# Altium footprint library Switches Tactile.PcbLib: 2 footprints
Each footprint in its own frame and in the unit in brackets; x right, y up, seen from the top. Pads: shape width x height; smd on the part's side, far side on the other; paste and mask are expansions set on the pad; w line width, h text height; cw(c..) or ccw(c..) is an arc to the next point about the centre after c.
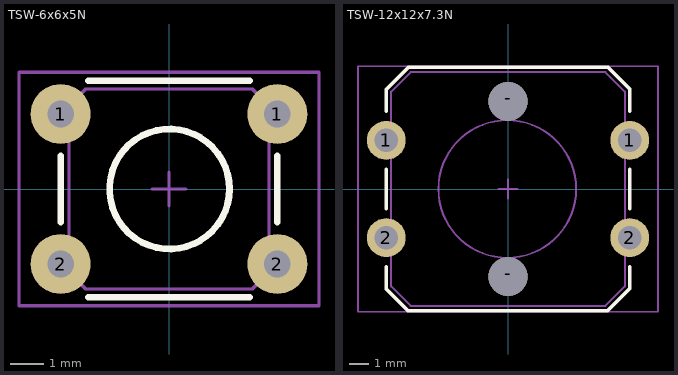
[diagram p0: the footprints below, top view; thin cyan lines are the x and y axes]

## TSW-6x6x5N [mm]
height 7
pads (4):
  round 1.8 hole 0.8: 1(-3.25,2.25) 1(3.25,2.25) 2(-3.25,-2.25) 2(3.25,-2.25)
Top Overlay:
  circle w0.2: c0.014,0 r1.8
  lines w0.2: -3.25,-1 -3.25,1 ; -2.425,-3.25 2.425,-3.25 ; -2.425,3.25 2.425,3.25 ; 3.25,-1 3.25,1
Top Package:
  circle w0.1: c0.025,-0.025 r1.8
  lines w0.1: -3,-2.5 -2.5,-3 2.5,-3 3,-2.5 3,2.5 2.5,3 -2.5,3 -3,2.5 -3,-2.5
Top Border:
  lines w0.1: -0.5,0 0.5,0 ; 0,-0.5 0,0.5 ; -4.5,-3.5 -4.5,3.5 4.5,3.5 4.5,-3.5 -4.5,-3.5
3D body "User Library-TPxxxx (Switch).step": height 5.4, standoff -3.09, extent -4.003,-3 3.971,3

## TSW-12x12x7.3N [mm]
height 7.3
pads (6):
  round 2 hole 1.2: 1(-6.25,2.5) 1(6.25,2.5) 2(-6.25,-2.5) 2(6.25,-2.5)
  round 2 hole 2 unplated mask+0: -(0,-4.5) -(0,4.5)
Top Overlay:
  lines w0.2: -6.25,-4 -6.25,-5.125 -5.125,-6.25 5.1,-6.25 6.25,-5.1 6.25,-4 ; -6.25,-1 -6.25,1 ; -6.25,4 -6.25,5.1 -5.1,6.25 5.125,6.25 6.25,5.125 6.25,4 ; 6.25,-1 6.25,1
Top Package:
  circle w0.1: c-0.036,0 r3.536
  circle w0.1: c0,-4.5 r0.9
  circle w0.1: c0,4.5 r0.9
  circle w0.1: c6.25,-2.5 r0.6
  circle w0.1: c-6.25,-2.5 r0.6
  circle w0.1: c6.25,2.5 r0.6
  circle w0.1: c-6.25,2.5 r0.6
  lines w0.1: -6,-5 -5,-6 5,-6 6,-5 6,5 5,6 -5,6 -6,5 -6,-5
Top Border:
  lines w0.1: -0.5,0 0.5,0 ; 0,-0.5 0,0.5 ; -7.7,-6.3 -7.7,6.3 7.7,6.3 7.7,-6.3 -7.7,-6.3
3D body "B3F-4055.stp": height 6.8, standoff -2, extent -6.55,-5.95 6.55,5.95